# EAGLE library part *73 (library digital)
74xx73: Dual JK flip-flop Negative-edge-triggered, with reset
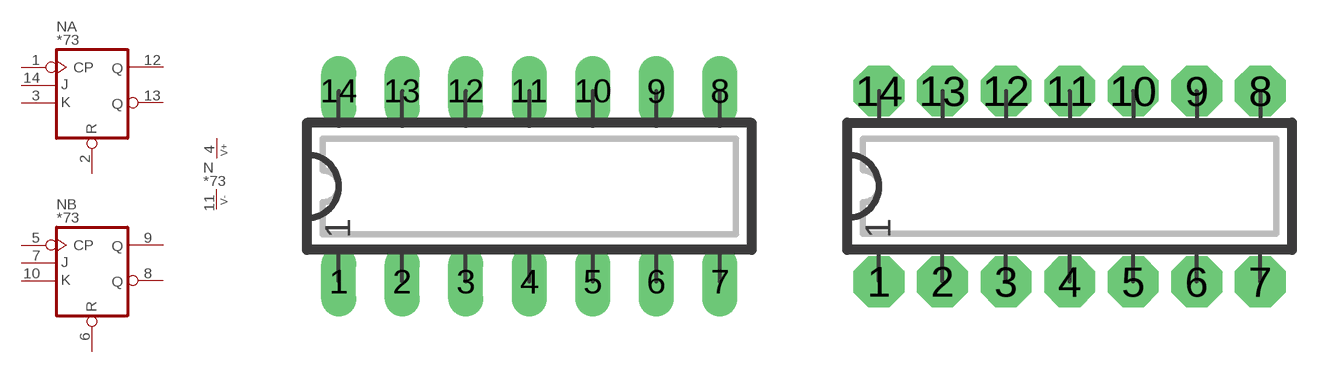
[diagram p35: symbol with the pads of DIP14L; footprints DIP14L, DIP14N]

Designator prefix N; gates A=JKFF_2 P=V+- B=JKFF_2

## 7473, 74HC73, 74HCT73, 74L73, 74LS73  [DIP14L]
1  A:CP  in
2  A:R  in
3  A:K  in
4  P:V+  pwr
5  B:CP  in
6  B:R  in
7  B:J  in
8  B:/Q  out
9  B:Q  out
10  B:K  in
11  P:V-  pwr
12  A:Q  out
13  A:/Q  out
14  A:J  in

## 7473L, 74HC73L, 74HCT73L, 74L73L, 74LS73L  [DIP14L]
Pads as for DIP14L

## 7473N, 74HC73N, 74HCT73N, 74L73N, 74LS73N  [DIP14N]
Pads as for DIP14L

## 7473R, 74HC73R, 74HCT73R, 74L73R, 74LS73R  [DIP14R]
Pads as for DIP14L

## 74HC73S, 74HCT73S  [SO14]
Pads as for DIP14L

## Footprint DIP14L (pad centres in mm)
DIP-14, long pads Standard IC package, 14 pins
drill 0.813 pad 1.397 long: 1 0,0; 2 2.54,0; 3 5.08,0; 4 7.62,0; 5 10.16,0; 6 12.7,0; 7 15.24,0; 8 15.24,7.62; 9 12.7,7.62; 10 10.16,7.62; 11 7.62,7.62; 12 5.08,7.62; 13 2.54,7.62; 14 0,7.62

## Footprint DIP14N (pad centres in mm)
DIP-14 Standard IC package, 14 pins
drill 0.813 pad 2.032 octagon: 1 0,0; 2 2.54,0; 3 5.08,0; 4 7.62,0; 5 10.16,0; 6 12.7,0; 7 15.24,0; 8 15.24,7.62; 9 12.7,7.62; 10 10.16,7.62; 11 7.62,7.62; 12 5.08,7.62; 13 2.54,7.62; 14 0,7.62

## Footprint DIP14R (pad centres in mm)
DIP-14, reduced pads Standard IC package, 14 pins
drill 0.813 pad 1.397 square: 1 0,0; 2 2.54,0; 3 5.08,0; 4 7.62,0; 5 10.16,0; 6 12.7,0; 7 15.24,0; 8 15.24,7.62; 9 12.7,7.62; 10 10.16,7.62; 11 7.62,7.62; 12 5.08,7.62; 13 2.54,7.62; 14 0,7.62

## Footprint SO14 (pad centres in mm)
SO-14, SMD SOIC IC package, 14 pins
smd 0.635 x 1.778: 1 -3.81,-2.857; 2 -2.54,-2.857; 3 -1.27,-2.857; 4 0,-2.857; 5 1.27,-2.857; 6 2.54,-2.857; 7 3.81,-2.857; 8 3.81,2.857; 9 2.54,2.857; 10 1.27,2.857; 11 0,2.857; 12 -1.27,2.857; 13 -2.54,2.857; 14 -3.81,2.857